# Altium footprint library ultrasonicsensor footprintPcbLib1.PcbLib: 1 footprints
Each footprint in its own frame and in the unit in brackets; x right, y up, seen from the top. Pads: shape width x height; smd on the part's side, far side on the other; paste and mask are expansions set on the pad; w line width, h text height; cw(c..) or ccw(c..) is an arc to the next point about the centre after c.
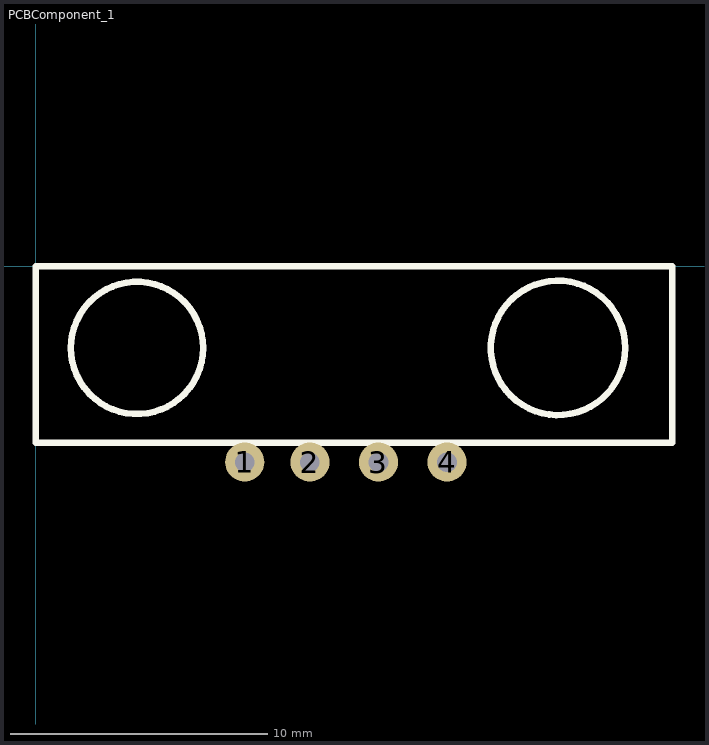
[diagram p0: the footprint, top view; thin cyan lines are the x and y axes]

## PCBComponent_1 [mil]
pads (4):
  round 60 hole 30: 1(320,-300) 2(420,-300) 3(525,-300) 4(630,-300)
Top Overlay:
  circle w10: c155,-125 r101.24
  circle w10: c800,-125 r102.96
  lines w10: 0,-270 0,0 975,0 975,-270 0,-270